# Altium integrated library Diodes - TVS.IntLib: 5379 symbols (part 69 of 122)
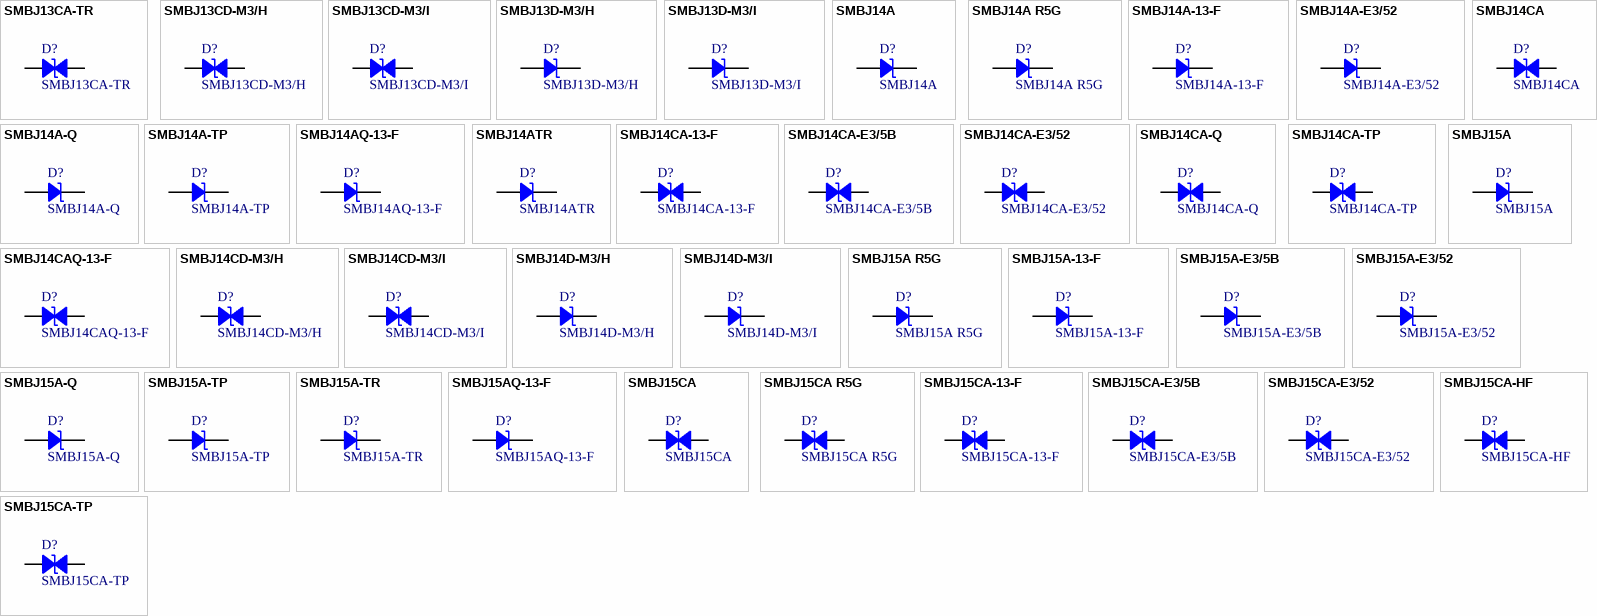
[diagram p202: symbols SMBJ13CA-TR to SMBJ15CA-TP]

## SMBJ14A-E3/52
designator D?
TVS DIODE 14V 23.2V DO214AA; Manufacturer: Vishay Semiconductor Diodes Division; Current - Peak Pulse (10/1000µs): 25.9A; Power Line Protection: No; Power - Peak Pulse: 600W; Type: Zener; Unidirectional Channels: 1; Voltage - Breakdown (Min): 15.6V; Part Number: SMBJ14A-E3/52; Applications: General Purpose; ComponentLink1Description: Datasheet; ComponentLink1URL: http://www.vishay.com/docs/88392/smbj.pdf; ComponentLink2Description: DigiKey Link; ComponentLink2URL: http://digikey.com/product-detail/en/vishay-semiconductor-diodes-division/SMBJ14A-E3-52/SMBJ14A-E3-52GICT-ND/2413418; LastUpdated: 9/2/2020 1:19:51 AM; Lifecycle Status: Active; Minimum Order: 1; Mounting Type: Surface Mount; Operating Temperature: -55°C ~ 150°C (TJ); Package / Case: DO-214AA, SMB; Packaging: TapeAndReel; PartId: 11390; Part Status: Active; Price: 0.15; Series: TransZorb®; Supplier 1: DigiKey; Supplier Part Number 1: SMBJ14A-E3/52GICT-ND; Supplier Device Package: DO-214AA (SMBJ); Voltage - Clamping (Max) @ Ipp: 23.2V; Voltage - Reverse Standoff (Typ): 14V
footprint DO214AA SMB
pins: 1, 2

## SMBJ14A-Q
designator D?
TVS DIODE 14V 23.2V SMB; Manufacturer: Bourns Inc.; Current - Peak Pulse (10/1000µs): 25.9A; Power Line Protection: No; Power - Peak Pulse: 600W; Type: Zener; Unidirectional Channels: 1; Voltage - Breakdown (Min): 15.6V; Part Number: SMBJ14A-Q; Applications: Automotive; ComponentLink1Description: Datasheet; ComponentLink1URL: https://www.bourns.com/docs/Product-Datasheets/SMBJ-Q.pdf; ComponentLink2Description: DigiKey Link; ComponentLink2URL: http://digikey.com/product-detail/en/bourns-inc/SMBJ14A-Q/SMBJ14A-QCT-ND/10222707; LastUpdated: 9/2/2020 1:19:45 AM; Lifecycle Status: Active; Minimum Order: 1; Mounting Type: Surface Mount; Operating Temperature: -55°C ~ 150°C (TJ); Package / Case: DO-214AA, SMB; Packaging: TapeAndReel; PartId: 10728; Part Status: Active; Price: 0.14; Series: Automotive, AEC-Q101, SMBJ; Supplier 1: DigiKey; Supplier Part Number 1: SMBJ14A-QCT-ND; Supplier Device Package: SMB (DO-214AA); Voltage - Clamping (Max) @ Ipp: 23.2V; Voltage - Reverse Standoff (Typ): 14V
footprint DO214AA SMB
pins: 1, 2

## SMBJ14A-TP
designator D?
TVS DIODE 14V 23.2V DO214AA; Manufacturer: Micro Commercial Co; Current - Peak Pulse (10/1000µs): 25.8A; Power Line Protection: No; Power - Peak Pulse: 600W; Type: Zener; Unidirectional Channels: 1; Voltage - Breakdown (Min): 15.6V; Part Number: SMBJ14A-TP; Applications: General Purpose; ComponentLink1Description: Datasheet; ComponentLink1URL: https://www.mccsemi.com/pdf/Products/SMBJ5.0-SMBJ440CA(DO-214AA).pdf; ComponentLink2Description: DigiKey Link; ComponentLink2URL: http://digikey.com/product-detail/en/micro-commercial-co/SMBJ14A-TP/SMBJ14A-TPMSCT-ND/1200656; LastUpdated: 9/2/2020 1:19:48 AM; Lifecycle Status: Active; Minimum Order: 1; Mounting Type: Surface Mount; Operating Temperature: -55°C ~ 175°C (TJ); Package / Case: DO-214AA, SMB; Packaging: TapeAndReel; PartId: 11064; Part Status: Active; Price: 0.10; Series: -; Supplier 1: DigiKey; Supplier Part Number 1: SMBJ14A-TPMSCT-ND; Supplier Device Package: DO-214AA (SMB); Voltage - Clamping (Max) @ Ipp: 23.2V; Voltage - Reverse Standoff (Typ): 14V
footprint DO214AA SMB
pins: 1, 2

## SMBJ14AQ-13-F
designator D?
TRANSIENT VOLTAGE SUPPRESSOR,SMB; Manufacturer: Diodes Incorporated; Current - Peak Pulse (10/1000µs): 25.8A; Power Line Protection: No; Power - Peak Pulse: 600W; Type: Zener; Unidirectional Channels: 1; Voltage - Breakdown (Min): 15.6V; Voltage - Clamping (Max) @ Ipp: 23.2V; Voltage - Reverse Standoff (Typ): 14V; Part Number: SMBJ14AQ-13-F; Applications: Automotive; ComponentLink1Description: Datasheet; ComponentLink1URL: https://www.diodes.com/assets/Datasheets/ds40740.pdf; ComponentLink2Description: DigiKey Link; ComponentLink2URL: http://digikey.com/product-detail/en/diodes-incorporated/SMBJ14AQ-13-F/SMBJ14AQ-13-FDICT-ND/9738907; LastUpdated: 9/2/2020 1:19:49 AM; Lifecycle Status: Active; Minimum Order: 1; Mounting Type: Surface Mount; Operating Temperature: -55°C ~ 150°C (TJ); Package / Case: DO-214AA, SMB; Packaging: TapeAndReel; PartId: 11164; Part Status: Active; Price: 0.13; Series: Automotive, AEC-Q101; Supplier 1: DigiKey; Supplier Part Number 1: SMBJ14AQ-13-FDICT-ND; Supplier Device Package: SMB
footprint DO214AA SMB
pins: 1, 2

## SMBJ14ATR
designator D?
TVS DIODE 14V 23.2V SMB; Manufacturer: SMC Diode Solutions; Current - Peak Pulse (10/1000µs): 25.8A; Power Line Protection: No; Power - Peak Pulse: 600W; Type: Zener; Unidirectional Channels: 1; Voltage - Breakdown (Min): 15.6V; Part Number: SMBJ14ATR; Applications: General Purpose; ComponentLink1Description: Datasheet; ComponentLink1URL: http://www.smc-diodes.com/propdf/SMBJ%20SERIES%20N0193%20REV.D.pdf; ComponentLink2Description: DigiKey Link; ComponentLink2URL: http://digikey.com/product-detail/en/smc-diode-solutions/SMBJ14ATR/1655-1746-1-ND/6674455; LastUpdated: 9/2/2020 1:19:44 AM; Lifecycle Status: Active; Minimum Order: 1; Mounting Type: Surface Mount; Operating Temperature: -55°C ~ 150°C (TJ); Package / Case: DO-214AA, SMB; Packaging: TapeAndReel; PartId: 10672; Part Status: Active; Price: 0.09; Series: -; Supplier 1: DigiKey; Supplier Part Number 1: 1655-1746-1-ND; Supplier Device Package: SMB (DO-214AA); Voltage - Clamping (Max) @ Ipp: 23.2V; Voltage - Reverse Standoff (Typ): 14V
footprint DO214AA SMB
pins: 1, 2

## SMBJ14CA
designator D?
TVS DIODE 14V 23.2V DO214AA; Manufacturer: Taiwan Semiconductor Corporation; Bidirectional Channels: 1; Current - Peak Pulse (10/1000µs): 25.9A; Power Line Protection: No; Power - Peak Pulse: 600W; Type: Zener; Voltage - Breakdown (Min): 15.6V; Part Number: SMBJ14CA; Applications: General Purpose; ComponentLink1Description: Datasheet; ComponentLink1URL: https://www.taiwansemi.com/products/datasheet/SMBJ5V0CA_F%20SERIES_A1806.pdf; ComponentLink2Description: DigiKey Link; ComponentLink2URL: http://digikey.com/product-detail/en/taiwan-semiconductor-corporation/SMBJ14CA/SMBJ14CAFSCT-ND/3504414; LastUpdated: 9/2/2020 1:28:17 AM; Lifecycle Status: Active; Minimum Order: 1; Mounting Type: Surface Mount; Operating Temperature: -55°C ~ 150°C (TJ); Package / Case: DO-214AA, SMB; Packaging: TapeAndReel; PartId: 9074; Part Status: Active; Price: 0.14; Series: SMBJ; Supplier 1: DigiKey; Supplier Part Number 1: SMBJ14CAFSCT-ND; Supplier Device Package: DO-214AA (SMB); Voltage - Clamping (Max) @ Ipp: 23.2V; Voltage - Reverse Standoff (Typ): 14V
footprint DO214AA SMB
pins: 1, 2

## SMBJ14CA-13-F
designator D?
TVS DIODE 14V 23.2V SMB; Manufacturer: Diodes Incorporated; Bidirectional Channels: 1; Current - Peak Pulse (10/1000µs): 25.8A; Power Line Protection: No; Power - Peak Pulse: 600W; Type: Zener; Voltage - Breakdown (Min): 15.6V; Part Number: SMBJ14CA-13-F; Applications: General Purpose; ComponentLink1Description: Datasheet; ComponentLink1URL: https://www.diodes.com/assets/Datasheets/ds19002.pdf; ComponentLink2Description: DigiKey Link; ComponentLink2URL: http://digikey.com/product-detail/en/diodes-incorporated/SMBJ14CA-13-F/SMBJ14CA-FDICT-ND/726012; LastUpdated: 9/2/2020 1:28:19 AM; Lifecycle Status: Active; Minimum Order: 1; Mounting Type: Surface Mount; Operating Temperature: -55°C ~ 150°C (TJ); Package / Case: DO-214AA, SMB; Packaging: TapeAndReel; PartId: 9292; Part Status: Active; Price: 0.10; Series: SMBJ; Supplier 1: DigiKey; Supplier Part Number 1: SMBJ14CA-FDICT-ND; Supplier Device Package: SMB; Voltage - Clamping (Max) @ Ipp: 23.2V; Voltage - Reverse Standoff (Typ): 14V
footprint DO214AA SMB
pins: 1, 2

## SMBJ14CA-E3/5B
designator D?
TVS DIODE 14V 23.2V DO214AA; Manufacturer: Vishay Semiconductor Diodes Division; Bidirectional Channels: 1; Current - Peak Pulse (10/1000µs): 25.9A; Power Line Protection: No; Power - Peak Pulse: 600W; Type: Zener; Voltage - Breakdown (Min): 15.6V; Part Number: SMBJ14CA-E3/5B; Applications: General Purpose; ComponentLink1Description: Datasheet; ComponentLink1URL: http://www.vishay.com/docs/88392/smbj.pdf; ComponentLink2Description: DigiKey Link; ComponentLink2URL: http://digikey.com/product-detail/en/vishay-semiconductor-diodes-division/SMBJ14CA-E3-5B/SMBJ14CA-E3-5BGICT-ND/9601045; LastUpdated: 9/2/2020 1:28:21 AM; Lifecycle Status: Active; Minimum Order: 1; Mounting Type: Surface Mount; Operating Temperature: -55°C ~ 150°C (TJ); Package / Case: DO-214AA, SMB; Packaging: TapeAndReel; PartId: 9500; Part Status: Active; Price: 0.12; Series: TransZorb®; Supplier 1: DigiKey; Supplier Part Number 1: SMBJ14CA-E3/5BGICT-ND; Supplier Device Package: DO-214AA (SMBJ); Voltage - Clamping (Max) @ Ipp: 23.2V; Voltage - Reverse Standoff (Typ): 14V
footprint DO214AA SMB
pins: 1, 2

## SMBJ14CA-E3/52
designator D?
TVS DIODE 14V 23.2V DO214AA; Manufacturer: Vishay Semiconductor Diodes Division; Bidirectional Channels: 1; Current - Peak Pulse (10/1000µs): 25.9A; Power Line Protection: No; Power - Peak Pulse: 600W; Type: Zener; Voltage - Breakdown (Min): 15.6V; Part Number: SMBJ14CA-E3/52; Applications: General Purpose; ComponentLink1Description: Datasheet; ComponentLink1URL: http://www.vishay.com/docs/88392/smbj.pdf; ComponentLink2Description: DigiKey Link; ComponentLink2URL: http://digikey.com/product-detail/en/vishay-semiconductor-diodes-division/SMBJ14CA-E3-52/SMBJ14CA-E3-52GICT-ND/2413457; LastUpdated: 9/2/2020 1:28:17 AM; Lifecycle Status: Active; Minimum Order: 1; Mounting Type: Surface Mount; Operating Temperature: -55°C ~ 150°C (TJ); Package / Case: DO-214AA, SMB; Packaging: TapeAndReel; PartId: 9014; Part Status: Active; Price: 0.19; Series: TransZorb®; Supplier 1: DigiKey; Supplier Part Number 1: SMBJ14CA-E3/52GICT-ND; Supplier Device Package: DO-214AA (SMBJ); Voltage - Clamping (Max) @ Ipp: 23.2V; Voltage - Reverse Standoff (Typ): 14V
footprint DO214AA SMB
pins: 1, 2

## SMBJ14CA-Q
designator D?
TVS DIODE 14V 23.2V SMB; Manufacturer: Bourns Inc.; Bidirectional Channels: 1; Current - Peak Pulse (10/1000µs): 25.9A; Power Line Protection: No; Power - Peak Pulse: 600W; Type: Zener; Voltage - Breakdown (Min): 15.6V; Part Number: SMBJ14CA-Q; Applications: Automotive; ComponentLink1Description: Datasheet; ComponentLink1URL: https://www.bourns.com/docs/Product-Datasheets/SMBJ-Q.pdf; ComponentLink2Description: DigiKey Link; ComponentLink2URL: http://digikey.com/product-detail/en/bourns-inc/SMBJ14CA-Q/SMBJ14CA-QCT-ND/10222708; LastUpdated: 9/2/2020 1:28:17 AM; Lifecycle Status: Active; Minimum Order: 1; Mounting Type: Surface Mount; Operating Temperature: -55°C ~ 150°C (TJ); Package / Case: DO-214AA, SMB; Packaging: TapeAndReel; PartId: 9062; Part Status: Active; Price: 0.15; Series: Automotive, AEC-Q101, SMBJ; Supplier 1: DigiKey; Supplier Part Number 1: SMBJ14CA-QCT-ND; Supplier Device Package: SMB (DO-214AA); Voltage - Clamping (Max) @ Ipp: 23.2V; Voltage - Reverse Standoff (Typ): 14V
footprint DO214AA SMB
pins: 1, 2

## SMBJ14CA-TP
designator D?
TVS DIODE 14V 23.2V DO214AA; Manufacturer: Micro Commercial Co; Bidirectional Channels: 1; Current - Peak Pulse (10/1000µs): 25.8A; Power Line Protection: No; Power - Peak Pulse: 600W; Type: Zener; Voltage - Breakdown (Min): 15.6V; Part Number: SMBJ14CA-TP; Applications: General Purpose; ComponentLink1Description: Datasheet; ComponentLink1URL: https://www.mccsemi.com/pdf/Products/SMBJ5.0-SMBJ440CA(DO-214AA).pdf; ComponentLink2Description: DigiKey Link; ComponentLink2URL: http://digikey.com/product-detail/en/micro-commercial-co/SMBJ14CA-TP/SMBJ14CA-TPMSCT-ND/1200657; LastUpdated: 9/2/2020 1:28:18 AM; Lifecycle Status: Active; Minimum Order: 1; Mounting Type: Surface Mount; Operating Temperature: -55°C ~ 175°C (TJ); Package / Case: DO-214AA, SMB; Packaging: TapeAndReel; PartId: 9192; Part Status: Active; Price: 0.03; Series: -; Supplier 1: DigiKey; Supplier Part Number 1: SMBJ14CA-TPMSCT-ND; Supplier Device Package: DO-214AA (SMB); Voltage - Clamping (Max) @ Ipp: 23.2V; Voltage - Reverse Standoff (Typ): 14V
footprint DO214AA SMB
pins: 1, 2

## SMBJ14CAQ-13-F
designator D?
TRANSIENT VOLTAGE SUPPRESSOR,SMB; Manufacturer: Diodes Incorporated; Bidirectional Channels: 1; Current - Peak Pulse (10/1000µs): 25.8A; Power Line Protection: No; Power - Peak Pulse: 600W; Type: Zener; Voltage - Breakdown (Min): 15.6V; Voltage - Clamping (Max) @ Ipp: 23.2V; Voltage - Reverse Standoff (Typ): 14V; Part Number: SMBJ14CAQ-13-F; Applications: Automotive; ComponentLink1Description: Datasheet; ComponentLink1URL: https://www.diodes.com/assets/Datasheets/ds40740.pdf; ComponentLink2Description: DigiKey Link; ComponentLink2URL: http://digikey.com/product-detail/en/diodes-incorporated/SMBJ14CAQ-13-F/SMBJ14CAQ-13-FDICT-ND/9738920; LastUpdated: 9/2/2020 1:28:19 AM; Lifecycle Status: Active; Minimum Order: 1; Mounting Type: Surface Mount; Operating Temperature: -55°C ~ 150°C (TJ); Package / Case: DO-214AA, SMB; Packaging: TapeAndReel; PartId: 9329; Part Status: Active; Price: 0.14; Series: Automotive, AEC-Q101; Supplier 1: DigiKey; Supplier Part Number 1: SMBJ14CAQ-13-FDICT-ND; Supplier Device Package: SMB
footprint DO214AA SMB
pins: 1, 2

## SMBJ14CD-M3/H
designator D?
TVS DIODE 14V 22.9V DO214AA; Manufacturer: Vishay Semiconductor Diodes Division; Bidirectional Channels: 1; Current - Peak Pulse (10/1000µs): 26.2A; Power Line Protection: No; Power - Peak Pulse: 600W; Type: Zener; Voltage - Breakdown (Min): 15.8V; Part Number: SMBJ14CD-M3/H; Applications: General Purpose; ComponentLink1Description: Datasheet; ComponentLink1URL: http://www.vishay.com/docs/87606/87606.pdf; ComponentLink2Description: DigiKey Link; ComponentLink2URL: http://digikey.com/product-detail/en/vishay-semiconductor-diodes-division/SMBJ14CD-M3-H/SMBJ14CD-M3-HGICT-ND/5878962; LastUpdated: 9/2/2020 1:28:20 AM; Lifecycle Status: Active; Minimum Order: 1; Mounting Type: Surface Mount; Operating Temperature: -55°C ~ 150°C (TJ); Package / Case: DO-214AA, SMB; Packaging: TapeAndReel; PartId: 9344; Part Status: Active; Price: 0.20; Series: TransZorb®; Supplier 1: DigiKey; Supplier Part Number 1: SMBJ14CD-M3/HGICT-ND; Supplier Device Package: DO-214AA (SMBJ); Voltage - Clamping (Max) @ Ipp: 22.9V; Voltage - Reverse Standoff (Typ): 14V
footprint DO214AA SMB
pins: 1, 2

## SMBJ14CD-M3/I
designator D?
TVS DIODE 14V 22.9V DO214AA; Manufacturer: Vishay Semiconductor Diodes Division; Bidirectional Channels: 1; Current - Peak Pulse (10/1000µs): 26.2A; Power Line Protection: No; Power - Peak Pulse: 600W; Type: Zener; Voltage - Breakdown (Min): 15.8V; Part Number: SMBJ14CD-M3/I; Applications: General Purpose; ComponentLink1Description: Datasheet; ComponentLink1URL: http://www.vishay.com/docs/87606/87606.pdf; ComponentLink2Description: DigiKey Link; ComponentLink2URL: http://digikey.com/product-detail/en/vishay-semiconductor-diodes-division/SMBJ14CD-M3-I/SMBJ14CD-M3-IGICT-ND/9648410; LastUpdated: 9/2/2020 1:28:21 AM; Lifecycle Status: Active; Minimum Order: 1; Mounting Type: Surface Mount; Operating Temperature: -55°C ~ 150°C (TJ); Package / Case: DO-214AA, SMB; Packaging: TapeAndReel; PartId: 9491; Part Status: Active; Price: 0.13; Series: TransZorb®; Supplier 1: DigiKey; Supplier Part Number 1: SMBJ14CD-M3/IGICT-ND; Supplier Device Package: DO-214AA (SMBJ); Voltage - Clamping (Max) @ Ipp: 22.9V; Voltage - Reverse Standoff (Typ): 14V
footprint DO214AA SMB
pins: 1, 2

## SMBJ14D-M3/H
designator D?
TVS DIODE 14V 22.9V DO214AA; Manufacturer: Vishay Semiconductor Diodes Division; Current - Peak Pulse (10/1000µs): 26.2A; Power Line Protection: No; Power - Peak Pulse: 600W; Type: Zener; Unidirectional Channels: 1; Voltage - Breakdown (Min): 15.8V; Part Number: SMBJ14D-M3/H; Applications: General Purpose; ComponentLink1Description: Datasheet; ComponentLink1URL: http://www.vishay.com/docs/87606/87606.pdf; ComponentLink2Description: DigiKey Link; ComponentLink2URL: http://digikey.com/product-detail/en/vishay-semiconductor-diodes-division/SMBJ14D-M3-H/SMBJ14D-M3-HGICT-ND/5253062; LastUpdated: 9/2/2020 1:19:43 AM; Lifecycle Status: Active; Minimum Order: 1; Mounting Type: Surface Mount; Operating Temperature: -55°C ~ 150°C (TJ); Package / Case: DO-214AA, SMB; Packaging: TapeAndReel; PartId: 10607; Part Status: Active; Price: 0.15; Series: TransZorb®; Supplier 1: DigiKey; Supplier Part Number 1: SMBJ14D-M3/HGICT-ND; Supplier Device Package: DO-214AA (SMBJ); Voltage - Clamping (Max) @ Ipp: 22.9V; Voltage - Reverse Standoff (Typ): 14V
footprint DO214AA SMB
pins: 1, 2

## SMBJ14D-M3/I
designator D?
TVS DIODE 14V 22.9V DO214AA; Manufacturer: Vishay Semiconductor Diodes Division; Current - Peak Pulse (10/1000µs): 26.2A; Power Line Protection: No; Power - Peak Pulse: 600W; Type: Zener; Unidirectional Channels: 1; Voltage - Breakdown (Min): 15.8V; Part Number: SMBJ14D-M3/I; Applications: General Purpose; ComponentLink1Description: Datasheet; ComponentLink1URL: http://www.vishay.com/docs/87606/87606.pdf; ComponentLink2Description: DigiKey Link; ComponentLink2URL: http://digikey.com/product-detail/en/vishay-semiconductor-diodes-division/SMBJ14D-M3-I/SMBJ14D-M3-IGICT-ND/9648411; LastUpdated: 9/2/2020 1:19:47 AM; Lifecycle Status: Active; Minimum Order: 1; Mounting Type: Surface Mount; Operating Temperature: -55°C ~ 150°C (TJ); Package / Case: DO-214AA, SMB; Packaging: TapeAndReel; PartId: 10946; Part Status: Active; Price: 0.11; Series: TransZorb®; Supplier 1: DigiKey; Supplier Part Number 1: SMBJ14D-M3/IGICT-ND; Supplier Device Package: DO-214AA (SMBJ); Voltage - Clamping (Max) @ Ipp: 22.9V; Voltage - Reverse Standoff (Typ): 14V
footprint DO214AA SMB
pins: 1, 2

## SMBJ15A
designator D?
TVS DIODE 15V 24.4V DO214AA; Manufacturer: Littelfuse Inc.; Current - Peak Pulse (10/1000µs): 24.6A; Power Line Protection: No; Power - Peak Pulse: 600W; Type: Zener; Unidirectional Channels: 1; Voltage - Breakdown (Min): 16.7V; Part Number: SMBJ15A; Applications: General Purpose; ComponentLink1Description: Datasheet; ComponentLink1URL: https://www.littelfuse.com/~/media/electronics/datasheets/tvs_diodes/littelfuse_tvs_diode_smbj_datasheet.pdf.pdf; ComponentLink2Description: DigiKey Link; ComponentLink2URL: http://digikey.com/product-detail/en/littelfuse-inc/SMBJ15A/SMBJ15ALFCT-ND/285981; LastUpdated: 9/2/2020 1:19:45 AM; Lifecycle Status: Active; Minimum Order: 1; Mounting Type: Surface Mount; Operating Temperature: -65°C ~ 150°C (TJ); Package / Case: DO-214AA, SMB; Packaging: TapeAndReel; PartId: 10746; Part Status: Active; Price: 0.09; Series: SMBJ; Supplier 1: DigiKey; Supplier Part Number 1: SMBJ15ALFCT-ND; Supplier Device Package: DO-214AA (SMBJ); Voltage - Clamping (Max) @ Ipp: 24.4V; Voltage - Reverse Standoff (Typ): 15V
footprint DO214AA SMB
pins: 1, 2

## SMBJ15A R5G
designator D?
TVS DIODE 15V 24.4V DO214AA; Manufacturer: Taiwan Semiconductor Corporation; Current - Peak Pulse (10/1000µs): 25.1A; Power Line Protection: No; Power - Peak Pulse: 600W; Type: Zener; Unidirectional Channels: 1; Voltage - Breakdown (Min): 16.7V; Part Number: SMBJ15A R5G; Applications: General Purpose; ComponentLink1Description: Datasheet; ComponentLink1URL: https://www.taiwansemi.com/products/datasheet/SMBJ%20SERIES_P1812.pdf; ComponentLink2Description: DigiKey Link; ComponentLink2URL: http://digikey.com/product-detail/en/taiwan-semiconductor-corporation/SMBJ15A-R5G/SMBJ15AR5GCT-ND/7359075; LastUpdated: 9/2/2020 1:19:51 AM; Lifecycle Status: Active; Minimum Order: 1; Mounting Type: Surface Mount; Operating Temperature: -55°C ~ 150°C (TJ); Package / Case: DO-214AA, SMB; Packaging: TapeAndReel; PartId: 11316; Part Status: Active; Price: 0.22; Series: SMBJ; Supplier 1: DigiKey; Supplier Part Number 1: SMBJ15AR5GCT-ND; Supplier Device Package: DO-214AA (SMB); Voltage - Clamping (Max) @ Ipp: 24.4V; Voltage - Reverse Standoff (Typ): 15V
footprint DO214AA SMB
pins: 1, 2

## SMBJ15A-13-F
designator D?
TVS DIODE 15V 24.4V SMB; Manufacturer: Diodes Incorporated; Current - Peak Pulse (10/1000µs): 24A; Power Line Protection: No; Power - Peak Pulse: 600W; Type: Zener; Unidirectional Channels: 1; Voltage - Breakdown (Min): 16.7V; Part Number: SMBJ15A-13-F; Applications: General Purpose; ComponentLink1Description: Datasheet; ComponentLink1URL: https://www.diodes.com/assets/Datasheets/ds19002.pdf; ComponentLink2Description: DigiKey Link; ComponentLink2URL: http://digikey.com/product-detail/en/diodes-incorporated/SMBJ15A-13-F/SMBJ15A-FDICT-ND/816058; LastUpdated: 9/2/2020 1:19:50 AM; Lifecycle Status: Active; Minimum Order: 1; Mounting Type: Surface Mount; Operating Temperature: -55°C ~ 150°C (TJ); Package / Case: DO-214AA, SMB; Packaging: TapeAndReel; PartId: 11286; Part Status: Active; Price: 0.09; Series: SMBJ; Supplier 1: DigiKey; Supplier Part Number 1: SMBJ15A-FDICT-ND; Supplier Device Package: SMB; Voltage - Clamping (Max) @ Ipp: 24.4V; Voltage - Reverse Standoff (Typ): 15V
footprint DO214AA SMB
pins: 1, 2

## SMBJ15A-E3/5B
designator D?
TVS DIODE 15V 24.4V DO214AA; Manufacturer: Vishay Semiconductor Diodes Division; Current - Peak Pulse (10/1000µs): 24.6A; Power Line Protection: No; Power - Peak Pulse: 600W; Type: Zener; Unidirectional Channels: 1; Voltage - Breakdown (Min): 16.7V; Part Number: SMBJ15A-E3/5B; Applications: General Purpose; ComponentLink1Description: Datasheet; ComponentLink1URL: http://www.vishay.com/docs/88392/smbj.pdf; ComponentLink2Description: DigiKey Link; ComponentLink2URL: http://digikey.com/product-detail/en/vishay-semiconductor-diodes-division/SMBJ15A-E3-5B/SMBJ15A-E3-5BGICT-ND/9601047; LastUpdated: 9/2/2020 1:19:43 AM; Lifecycle Status: Active; Minimum Order: 1; Mounting Type: Surface Mount; Operating Temperature: -55°C ~ 150°C (TJ); Package / Case: DO-214AA, SMB; Packaging: TapeAndReel; PartId: 10573; Part Status: Active; Price: 0.11; Series: TransZorb®; Supplier 1: DigiKey; Supplier Part Number 1: SMBJ15A-E3/5BGICT-ND; Supplier Device Package: DO-214AA (SMBJ); Voltage - Clamping (Max) @ Ipp: 24.4V; Voltage - Reverse Standoff (Typ): 15V
footprint DO214AA SMB
pins: 1, 2

## SMBJ15A-E3/52
designator D?
TVS DIODE 15V 24.4V DO214AA; Manufacturer: Vishay Semiconductor Diodes Division; Current - Peak Pulse (10/1000µs): 24.6A; Power Line Protection: No; Power - Peak Pulse: 600W; Type: Zener; Unidirectional Channels: 1; Voltage - Breakdown (Min): 16.7V; Part Number: SMBJ15A-E3/52; Applications: General Purpose; ComponentLink1Description: Datasheet; ComponentLink1URL: http://www.vishay.com/docs/88392/smbj.pdf; ComponentLink2Description: DigiKey Link; ComponentLink2URL: http://digikey.com/product-detail/en/vishay-semiconductor-diodes-division/SMBJ15A-E3-52/SMBJ15A-E3-52GICT-ND/1091645; LastUpdated: 9/2/2020 1:19:49 AM; Lifecycle Status: Active; Minimum Order: 1; Mounting Type: Surface Mount; Operating Temperature: -55°C ~ 150°C (TJ); Package / Case: DO-214AA, SMB; Packaging: TapeAndReel; PartId: 11116; Part Status: Active; Price: 0.15; Series: TransZorb®; Supplier 1: DigiKey; Supplier Part Number 1: SMBJ15A-E3/52GICT-ND; Supplier Device Package: DO-214AA (SMBJ); Voltage - Clamping (Max) @ Ipp: 24.4V; Voltage - Reverse Standoff (Typ): 15V
footprint DO214AA SMB
pins: 1, 2

## SMBJ15A-Q
designator D?
TVS DIODE 15V 24.4V SMB; Manufacturer: Bourns Inc.; Current - Peak Pulse (10/1000µs): 24.6A; Power Line Protection: No; Power - Peak Pulse: 600W; Type: Zener; Unidirectional Channels: 1; Voltage - Breakdown (Min): 16.7V; Part Number: SMBJ15A-Q; Applications: Automotive; ComponentLink1Description: Datasheet; ComponentLink1URL: https://www.bourns.com/docs/Product-Datasheets/SMBJ-Q.pdf; ComponentLink2Description: DigiKey Link; ComponentLink2URL: http://digikey.com/product-detail/en/bourns-inc/SMBJ15A-Q/SMBJ15A-QCT-ND/10222709; LastUpdated: 9/2/2020 1:19:45 AM; Lifecycle Status: Active; Minimum Order: 1; Mounting Type: Surface Mount; Operating Temperature: -55°C ~ 150°C (TJ); Package / Case: DO-214AA, SMB; Packaging: TapeAndReel; PartId: 10706; Part Status: Active; Price: 0.14; Series: Automotive, AEC-Q101, SMBJ; Supplier 1: DigiKey; Supplier Part Number 1: SMBJ15A-QCT-ND; Supplier Device Package: SMB (DO-214AA); Voltage - Clamping (Max) @ Ipp: 24.4V; Voltage - Reverse Standoff (Typ): 15V
footprint DO214AA SMB
pins: 1, 2

## SMBJ15A-TP
designator D?
TVS DIODE 15V 24.4V DO214AA; Manufacturer: Micro Commercial Co; Current - Peak Pulse (10/1000µs): 24A; Power Line Protection: No; Power - Peak Pulse: 600W; Type: Zener; Unidirectional Channels: 1; Voltage - Breakdown (Min): 16.7V; Part Number: SMBJ15A-TP; Applications: General Purpose; ComponentLink1Description: Datasheet; ComponentLink1URL: https://www.mccsemi.com/pdf/Products/SMBJ5.0-SMBJ440CA(DO-214AA).pdf; ComponentLink2Description: DigiKey Link; ComponentLink2URL: http://digikey.com/product-detail/en/micro-commercial-co/SMBJ15A-TP/SMBJ15A-TPMSCT-ND/1200658; LastUpdated: 9/2/2020 1:19:45 AM; Lifecycle Status: Active; Minimum Order: 1; Mounting Type: Surface Mount; Operating Temperature: -55°C ~ 175°C (TJ); Package / Case: DO-214AA, SMB; Packaging: TapeAndReel; PartId: 10763; Part Status: Active; Price: 0.10; Series: -; Supplier 1: DigiKey; Supplier Part Number 1: SMBJ15A-TPMSCT-ND; Supplier Device Package: DO-214AA (SMB); Voltage - Clamping (Max) @ Ipp: 24.4V; Voltage - Reverse Standoff (Typ): 15V
footprint DO214AA SMB
pins: 1, 2

## SMBJ15A-TR
designator D?
TVS DIODE 15V 32.5V SMB; Manufacturer: STMicroelectronics; Current - Peak Pulse (10/1000µs): 25.1A; Power Line Protection: No; Power - Peak Pulse: 600W; Type: Zener; Unidirectional Channels: 1; Voltage - Breakdown (Min): 16.7V; Voltage - Clamping (Max) @ Ipp: 24.4V; Part Number: SMBJ15A-TR; Applications: General Purpose; ComponentLink1Description: Datasheet; ComponentLink1URL: http://www.st.com/content/ccc/resource/technical/document/datasheet/19/78/91/39/07/cd/40/65/CD00001366.pdf/files/CD00001366.pdf/_jcr_content/translations/en.CD00001366.pdf; ComponentLink2Description: DigiKey Link; ComponentLink2URL: http://digikey.com/product-detail/en/stmicroelectronics/SMBJ15A-TR/497-3003-1-ND/634859; LastUpdated: 9/2/2020 1:19:51 AM; Lifecycle Status: Active; Minimum Order: 1; Mounting Type: Surface Mount; Operating Temperature: -55°C ~ 150°C (TJ); Package / Case: DO-214AA, SMB; Packaging: TapeAndReel; PartId: 11373; Part Status: Active; Price: 0.10; Series: SMBJ, TRANSIL™; Supplier 1: DigiKey; Supplier Part Number 1: 497-3003-1-ND; Supplier Device Package: SMB (DO-214AA); Voltage - Reverse Standoff (Typ): 15V
footprint DO214AA SMB
pins: 1, 2

## SMBJ15AQ-13-F
designator D?
TRANSIENT VOLTAGE SUPPRESSOR,SMB; Manufacturer: Diodes Incorporated; Current - Peak Pulse (10/1000µs): 24A; Power Line Protection: No; Power - Peak Pulse: 600W; Type: Zener; Unidirectional Channels: 1; Voltage - Breakdown (Min): 16.7V; Voltage - Clamping (Max) @ Ipp: 24.4V; Voltage - Reverse Standoff (Typ): 15V; Part Number: SMBJ15AQ-13-F; Applications: Automotive; ComponentLink1Description: Datasheet; ComponentLink1URL: https://www.diodes.com/assets/Datasheets/ds40740.pdf; ComponentLink2Description: DigiKey Link; ComponentLink2URL: http://digikey.com/product-detail/en/diodes-incorporated/SMBJ15AQ-13-F/SMBJ15AQ-13-FDICT-ND/9738908; LastUpdated: 9/2/2020 1:19:49 AM; Lifecycle Status: Active; Minimum Order: 1; Mounting Type: Surface Mount; Operating Temperature: -55°C ~ 150°C (TJ); Package / Case: DO-214AA, SMB; Packaging: TapeAndReel; PartId: 11167; Part Status: Active; Price: 0.13; Series: Automotive, AEC-Q101; Supplier 1: DigiKey; Supplier Part Number 1: SMBJ15AQ-13-FDICT-ND; Supplier Device Package: SMB
footprint DO214AA SMB
pins: 1, 2

## SMBJ15CA
designator D?
TVS DIODE 15V 24.4V DO214AA; Manufacturer: Littelfuse Inc.; Bidirectional Channels: 1; Current - Peak Pulse (10/1000µs): 24.6A; Power Line Protection: No; Power - Peak Pulse: 600W; Type: Zener; Voltage - Breakdown (Min): 16.7V; Part Number: SMBJ15CA; Applications: General Purpose; ComponentLink1Description: Datasheet; ComponentLink1URL: https://www.littelfuse.com/~/media/electronics/datasheets/tvs_diodes/littelfuse_tvs_diode_smbj_datasheet.pdf.pdf; ComponentLink2Description: DigiKey Link; ComponentLink2URL: http://digikey.com/product-detail/en/littelfuse-inc/SMBJ15CA/SMBJ15CALFCT-ND/285983; LastUpdated: 9/2/2020 1:28:17 AM; Lifecycle Status: Active; Minimum Order: 1; Mounting Type: Surface Mount; Operating Temperature: -65°C ~ 150°C (TJ); Package / Case: DO-214AA, SMB; Packaging: TapeAndReel; PartId: 9087; Part Status: Active; Price: 0.11; Series: SMBJ; Supplier 1: DigiKey; Supplier Part Number 1: SMBJ15CALFCT-ND; Supplier Device Package: DO-214AA (SMBJ); Voltage - Clamping (Max) @ Ipp: 24.4V; Voltage - Reverse Standoff (Typ): 15V
footprint DO214AA SMB
pins: 1, 2

## SMBJ15CA R5G
designator D?
TVS DIODE 15V 24.4V DO214AA; Manufacturer: Taiwan Semiconductor Corporation; Bidirectional Channels: 1; Current - Peak Pulse (10/1000µs): 25.1A; Power Line Protection: No; Power - Peak Pulse: 600W; Type: Zener; Voltage - Breakdown (Min): 16.7V; Part Number: SMBJ15CA R5G; Applications: General Purpose; ComponentLink1Description: Datasheet; ComponentLink1URL: https://www.taiwansemi.com/products/datasheet/SMBJ5V0CA_F%20SERIES_A1806.pdf; ComponentLink2Description: DigiKey Link; ComponentLink2URL: http://digikey.com/product-detail/en/taiwan-semiconductor-corporation/SMBJ15CA-R5G/SMBJ15CAR5GCT-ND/7359078; LastUpdated: 9/2/2020 1:28:17 AM; Lifecycle Status: Active; Minimum Order: 1; Mounting Type: Surface Mount; Operating Temperature: -55°C ~ 150°C (TJ); Package / Case: DO-214AA, SMB; Packaging: TapeAndReel; PartId: 9095; Part Status: Active; Price: 0.30; Series: SMBJ; Supplier 1: DigiKey; Supplier Part Number 1: SMBJ15CAR5GCT-ND; Supplier Device Package: DO-214AA (SMB); Voltage - Clamping (Max) @ Ipp: 24.4V; Voltage - Reverse Standoff (Typ): 15V
footprint DO214AA SMB
pins: 1, 2

## SMBJ15CA-13-F
designator D?
TVS DIODE 15V 24.4V SMB; Manufacturer: Diodes Incorporated; Bidirectional Channels: 1; Current - Peak Pulse (10/1000µs): 24A; Power Line Protection: No; Power - Peak Pulse: 600W; Type: Zener; Voltage - Breakdown (Min): 16.7V; Part Number: SMBJ15CA-13-F; Applications: General Purpose; ComponentLink1Description: Datasheet; ComponentLink1URL: https://www.diodes.com/assets/Datasheets/ds19002.pdf; ComponentLink2Description: DigiKey Link; ComponentLink2URL: http://digikey.com/product-detail/en/diodes-incorporated/SMBJ15CA-13-F/SMBJ15CA-FDICT-ND/816059; LastUpdated: 9/2/2020 1:28:18 AM; Lifecycle Status: Active; Minimum Order: 1; Mounting Type: Surface Mount; Operating Temperature: -55°C ~ 150°C (TJ); Package / Case: DO-214AA, SMB; Packaging: TapeAndReel; PartId: 9153; Part Status: Active; Price: 0.10; Series: SMBJ; Supplier 1: DigiKey; Supplier Part Number 1: SMBJ15CA-FDICT-ND; Supplier Device Package: SMB; Voltage - Clamping (Max) @ Ipp: 24.4V; Voltage - Reverse Standoff (Typ): 15V
footprint DO214AA SMB
pins: 1, 2

## SMBJ15CA-E3/5B
designator D?
TVS DIODE 15V 24.4V DO214AA; Manufacturer: Vishay Semiconductor Diodes Division; Bidirectional Channels: 1; Current - Peak Pulse (10/1000µs): 24.6A; Power Line Protection: No; Power - Peak Pulse: 600W; Type: Zener; Voltage - Breakdown (Min): 16.7V; Part Number: SMBJ15CA-E3/5B; Applications: General Purpose; ComponentLink1Description: Datasheet; ComponentLink1URL: http://www.vishay.com/docs/88392/smbj.pdf; ComponentLink2Description: DigiKey Link; ComponentLink2URL: http://digikey.com/product-detail/en/vishay-semiconductor-diodes-division/SMBJ15CA-E3-5B/SMBJ15CA-E3-5BGICT-ND/5355456; LastUpdated: 9/2/2020 1:28:19 AM; Lifecycle Status: Active; Minimum Order: 1; Mounting Type: Surface Mount; Operating Temperature: -55°C ~ 150°C (TJ); Package / Case: DO-214AA, SMB; Packaging: TapeAndReel; PartId: 9217; Part Status: Active; Price: 0.12; Series: TransZorb®; Supplier 1: DigiKey; Supplier Part Number 1: SMBJ15CA-E3/5BGICT-ND; Supplier Device Package: DO-214AA (SMBJ); Voltage - Clamping (Max) @ Ipp: 24.4V; Voltage - Reverse Standoff (Typ): 15V
footprint DO214AA SMB
pins: 1, 2

## SMBJ15CA-E3/52
designator D?
TVS DIODE 15V 24.4V DO214AA; Manufacturer: Vishay Semiconductor Diodes Division; Bidirectional Channels: 1; Current - Peak Pulse (10/1000µs): 24.6A; Power Line Protection: No; Power - Peak Pulse: 600W; Type: Zener; Voltage - Breakdown (Min): 16.7V; Part Number: SMBJ15CA-E3/52; Applications: General Purpose; ComponentLink1Description: Datasheet; ComponentLink1URL: http://www.vishay.com/docs/88392/smbj.pdf; ComponentLink2Description: DigiKey Link; ComponentLink2URL: http://digikey.com/product-detail/en/vishay-semiconductor-diodes-division/SMBJ15CA-E3-52/SMBJ15CA-E3-52GICT-ND/1091646; LastUpdated: 9/2/2020 1:28:21 AM; Lifecycle Status: Active; Minimum Order: 1; Mounting Type: Surface Mount; Operating Temperature: -55°C ~ 150°C (TJ); Package / Case: DO-214AA, SMB; Packaging: TapeAndReel; PartId: 9507; Part Status: Active; Price: 0.19; Series: TransZorb®; Supplier 1: DigiKey; Supplier Part Number 1: SMBJ15CA-E3/52GICT-ND; Supplier Device Package: DO-214AA (SMBJ); Voltage - Clamping (Max) @ Ipp: 24.4V; Voltage - Reverse Standoff (Typ): 15V
footprint DO214AA SMB
pins: 1, 2

## SMBJ15CA-HF
designator D?
DIODE TVS 15V 600W SMB BI-DIR; Manufacturer: Comchip Technology; Bidirectional Channels: 1; Current - Peak Pulse (10/1000µs): 24.6A; Power Line Protection: No; Type: Zener; Voltage - Breakdown (Min): 16.7V; Voltage - Clamping (Max) @ Ipp: 24.4V; Part Number: SMBJ15CA-HF; Applications: General Purpose; ComponentLink1Description: Datasheet; ComponentLink1URL: http://www.comchiptech.com/admin/files/product/20190409161655.PDF; ComponentLink2Description: DigiKey Link; ComponentLink2URL: http://digikey.com/product-detail/en/comchip-technology/SMBJ15CA-HF/641-2108-1-ND/10223579; LastUpdated: 9/2/2020 1:28:22 AM; Lifecycle Status: Active; Minimum Order: 1; Mounting Type: Surface Mount; Operating Temperature: -55°C ~ 150°C (TJ); Package / Case: DO-214AA, SMB; Packaging: TapeAndReel; PartId: 9660; Part Status: Active; Power - Peak Pulse: 600W; Price: 0.09; Series: -; Supplier 1: DigiKey; Supplier Part Number 1: 641-2108-1-ND; Supplier Device Package: DO-214AA (SMB); Voltage - Reverse Standoff (Typ): 15V
footprint DO214AA SMB
pins: 1, 2

## SMBJ15CA-TP
designator D?
TVS DIODE 15V 24.4V DO214AA; Manufacturer: Micro Commercial Co; Bidirectional Channels: 1; Current - Peak Pulse (10/1000µs): 24A; Power Line Protection: No; Power - Peak Pulse: 600W; Type: Zener; Voltage - Breakdown (Min): 16.7V; Part Number: SMBJ15CA-TP; Applications: General Purpose; ComponentLink1Description: Datasheet; ComponentLink1URL: https://www.mccsemi.com/pdf/Products/SMBJ5.0-SMBJ440CA(DO-214AA).pdf; ComponentLink2Description: DigiKey Link; ComponentLink2URL: http://digikey.com/product-detail/en/micro-commercial-co/SMBJ15CA-TP/SMBJ15CA-TPMSCT-ND/1200659; LastUpdated: 9/2/2020 1:28:21 AM; Lifecycle Status: Active; Minimum Order: 1; Mounting Type: Surface Mount; Operating Temperature: -55°C ~ 175°C (TJ); Package / Case: DO-214AA, SMB; Packaging: TapeAndReel; PartId: 9553; Part Status: Active; Price: 0.10; Series: -; Supplier 1: DigiKey; Supplier Part Number 1: SMBJ15CA-TPMSCT-ND; Supplier Device Package: DO-214AA (SMB); Voltage - Clamping (Max) @ Ipp: 24.4V; Voltage - Reverse Standoff (Typ): 15V
footprint DO214AA SMB
pins: 1, 2

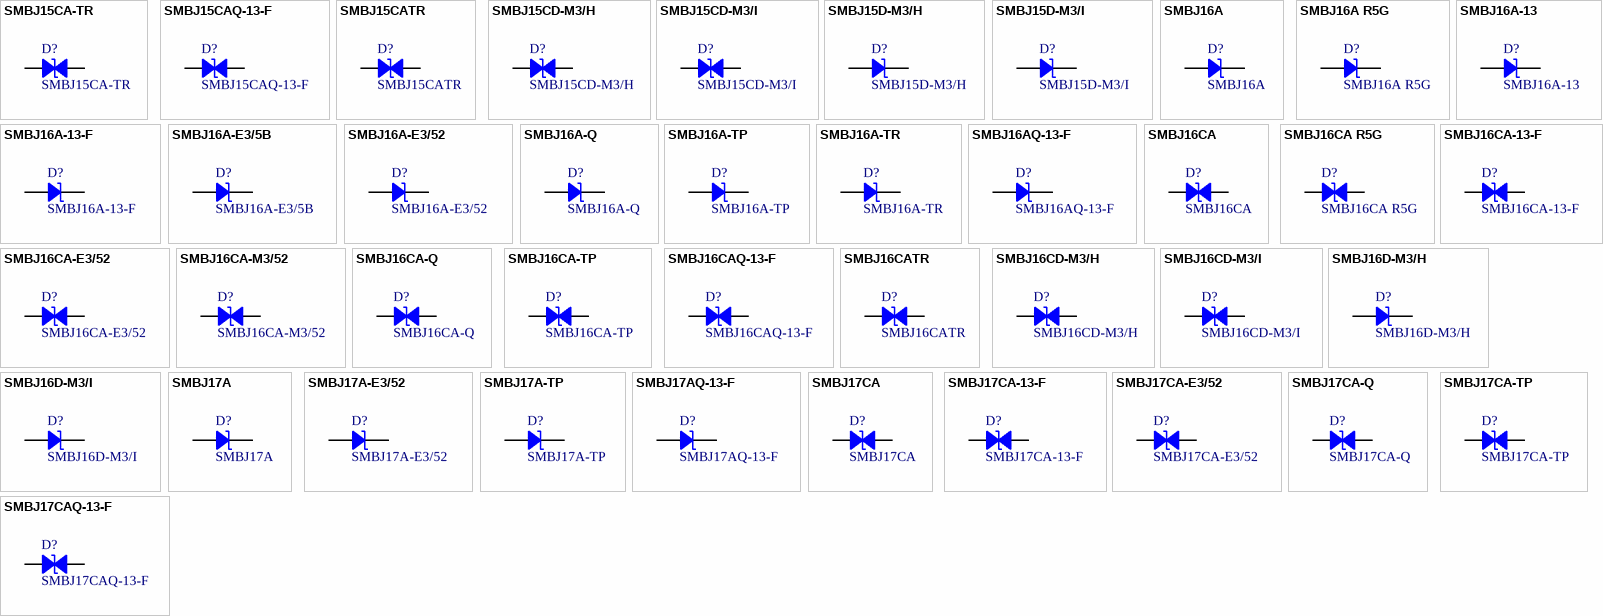
[diagram p76: symbols SMBJ15CA-TR to SMBJ17CAQ-13-F]

## SMBJ15CA-TR
designator D?
TVS DIODE 15V 32.5V SMB; Manufacturer: STMicroelectronics; Bidirectional Channels: 1; Current - Peak Pulse (10/1000µs): 25.1A; Power Line Protection: No; Power - Peak Pulse: 600W; Type: Zener; Voltage - Breakdown (Min): 16.7V; Voltage - Clamping (Max) @ Ipp: 24.4V; Part Number: SMBJ15CA-TR; Applications: General Purpose; ComponentLink1Description: Datasheet; ComponentLink1URL: http://www.st.com/content/ccc/resource/technical/document/datasheet/19/78/91/39/07/cd/40/65/CD00001366.pdf/files/CD00001366.pdf/_jcr_content/translations/en.CD00001366.pdf; ComponentLink2Description: DigiKey Link; ComponentLink2URL: http://digikey.com/product-detail/en/stmicroelectronics/SMBJ15CA-TR/497-3004-1-ND/634862; LastUpdated: 9/2/2020 1:28:20 AM; Lifecycle Status: Active; Minimum Order: 1; Mounting Type: Surface Mount; Operating Temperature: -55°C ~ 150°C (TJ); Package / Case: DO-214AA, SMB; Packaging: TapeAndReel; PartId: 9442; Part Status: Active; Price: 0.13; Series: SMBJ, TRANSIL™; Supplier 1: DigiKey; Supplier Part Number 1: 497-3004-1-ND; Supplier Device Package: SMB (DO-214AA); Voltage - Reverse Standoff (Typ): 15V
footprint DO214AA SMB
pins: 1, 2

## SMBJ15CAQ-13-F
designator D?
TRANSIENT VOLTAGE SUPPRESSOR,SMB; Manufacturer: Diodes Incorporated; Bidirectional Channels: 1; Current - Peak Pulse (10/1000µs): 24A; Power Line Protection: No; Power - Peak Pulse: 600W; Type: Zener; Voltage - Breakdown (Min): 16.7V; Voltage - Clamping (Max) @ Ipp: 24.4V; Voltage - Reverse Standoff (Typ): 15V; Part Number: SMBJ15CAQ-13-F; Applications: Automotive; ComponentLink1Description: Datasheet; ComponentLink1URL: https://www.diodes.com/assets/Datasheets/ds40740.pdf; ComponentLink2Description: DigiKey Link; ComponentLink2URL: http://digikey.com/product-detail/en/diodes-incorporated/SMBJ15CAQ-13-F/SMBJ15CAQ-13-FDICT-ND/9738921; LastUpdated: 9/2/2020 1:28:19 AM; Lifecycle Status: Active; Minimum Order: 1; Mounting Type: Surface Mount; Operating Temperature: -55°C ~ 150°C (TJ); Package / Case: DO-214AA, SMB; Packaging: TapeAndReel; PartId: 9325; Part Status: Active; Price: 0.14; Series: Automotive, AEC-Q101; Supplier 1: DigiKey; Supplier Part Number 1: SMBJ15CAQ-13-FDICT-ND; Supplier Device Package: SMB
footprint DO214AA SMB
pins: 1, 2

## SMBJ15CATR
designator D?
TVS DIODE 15V 24.4V SMB; Manufacturer: SMC Diode Solutions; Bidirectional Channels: 1; Current - Peak Pulse (10/1000µs): 24A; Power Line Protection: No; Power - Peak Pulse: 600W; Type: Zener; Voltage - Breakdown (Min): 16.7V; Part Number: SMBJ15CATR; Applications: General Purpose; ComponentLink1Description: Datasheet; ComponentLink1URL: http://www.smc-diodes.com/propdf/SMBJ%20SERIES%20N0193%20REV.D.pdf; ComponentLink2Description: DigiKey Link; ComponentLink2URL: http://digikey.com/product-detail/en/smc-diode-solutions/SMBJ15CATR/1655-1625-1-ND/6023070; LastUpdated: 9/2/2020 1:28:22 AM; Lifecycle Status: Active; Minimum Order: 1; Mounting Type: Surface Mount; Operating Temperature: -55°C ~ 150°C (TJ); Package / Case: DO-214AA, SMB; Packaging: TapeAndReel; PartId: 9659; Part Status: Active; Price: 0.09; Series: SMBJ; Supplier 1: DigiKey; Supplier Part Number 1: 1655-1625-1-ND; Supplier Device Package: SMB (DO-214AA); Voltage - Clamping (Max) @ Ipp: 24.4V; Voltage - Reverse Standoff (Typ): 15V
footprint DO214AA SMB
pins: 1, 2

## SMBJ15CD-M3/H
designator D?
TVS DIODE 15V 24V DO214AA; Manufacturer: Vishay Semiconductor Diodes Division; Bidirectional Channels: 1; Current - Peak Pulse (10/1000µs): 25A; Power Line Protection: No; Power - Peak Pulse: 600W; Type: Zener; Voltage - Breakdown (Min): 17V; Part Number: SMBJ15CD-M3/H; Applications: General Purpose; ComponentLink1Description: Datasheet; ComponentLink1URL: http://www.vishay.com/docs/87606/87606.pdf; ComponentLink2Description: DigiKey Link; ComponentLink2URL: http://digikey.com/product-detail/en/vishay-semiconductor-diodes-division/SMBJ15CD-M3-H/SMBJ15CD-M3-HGICT-ND/5880118; LastUpdated: 9/2/2020 1:28:16 AM; Lifecycle Status: Active; Minimum Order: 1; Mounting Type: Surface Mount; Operating Temperature: -55°C ~ 150°C (TJ); Package / Case: DO-214AA, SMB; Packaging: TapeAndReel; PartId: 8936; Part Status: Active; Price: 0.20; Series: TransZorb®; Supplier 1: DigiKey; Supplier Part Number 1: SMBJ15CD-M3/HGICT-ND; Supplier Device Package: DO-214AA (SMBJ); Voltage - Clamping (Max) @ Ipp: 24V; Voltage - Reverse Standoff (Typ): 15V
footprint DO214AA SMB
pins: 1, 2

## SMBJ15CD-M3/I
designator D?
TVS DIODE 15V 24V DO214AA; Manufacturer: Vishay Semiconductor Diodes Division; Bidirectional Channels: 1; Current - Peak Pulse (10/1000µs): 25A; Power Line Protection: No; Power - Peak Pulse: 600W; Type: Zener; Voltage - Breakdown (Min): 17V; Part Number: SMBJ15CD-M3/I; Applications: General Purpose; ComponentLink1Description: Datasheet; ComponentLink1URL: http://www.vishay.com/docs/87606/87606.pdf; ComponentLink2Description: DigiKey Link; ComponentLink2URL: http://digikey.com/product-detail/en/vishay-semiconductor-diodes-division/SMBJ15CD-M3-I/SMBJ15CD-M3-IGICT-ND/7915507; LastUpdated: 9/2/2020 1:28:20 AM; Lifecycle Status: Active; Minimum Order: 1; Mounting Type: Surface Mount; Operating Temperature: -55°C ~ 150°C (TJ); Package / Case: DO-214AA, SMB; Packaging: TapeAndReel; PartId: 9387; Part Status: Active; Price: 0.13; Series: TransZorb®; Supplier 1: DigiKey; Supplier Part Number 1: SMBJ15CD-M3/IGICT-ND; Supplier Device Package: DO-214AA (SMBJ); Voltage - Clamping (Max) @ Ipp: 24V; Voltage - Reverse Standoff (Typ): 15V
footprint DO214AA SMB
pins: 1, 2

## SMBJ15D-M3/H
designator D?
TVS DIODE 15V 24V DO214AA; Manufacturer: Vishay Semiconductor Diodes Division; Current - Peak Pulse (10/1000µs): 25A; Power Line Protection: No; Power - Peak Pulse: 600W; Type: Zener; Unidirectional Channels: 1; Voltage - Breakdown (Min): 17V; Part Number: SMBJ15D-M3/H; Applications: General Purpose; ComponentLink1Description: Datasheet; ComponentLink1URL: http://www.vishay.com/docs/87606/87606.pdf; ComponentLink2Description: DigiKey Link; ComponentLink2URL: http://digikey.com/product-detail/en/vishay-semiconductor-diodes-division/SMBJ15D-M3-H/SMBJ15D-M3-HGICT-ND/5253063; LastUpdated: 9/2/2020 1:19:49 AM; Lifecycle Status: Active; Minimum Order: 1; Mounting Type: Surface Mount; Operating Temperature: -55°C ~ 150°C (TJ); Package / Case: DO-214AA, SMB; Packaging: TapeAndReel; PartId: 11148; Part Status: Active; Price: 0.15; Series: TransZorb®; Supplier 1: DigiKey; Supplier Part Number 1: SMBJ15D-M3/HGICT-ND; Supplier Device Package: DO-214AA (SMBJ); Voltage - Clamping (Max) @ Ipp: 24V; Voltage - Reverse Standoff (Typ): 15V
footprint DO214AA SMB
pins: 1, 2

## SMBJ15D-M3/I
designator D?
TVS DIODE 15V 24V DO214AA; Manufacturer: Vishay Semiconductor Diodes Division; Current - Peak Pulse (10/1000µs): 25A; Power Line Protection: No; Power - Peak Pulse: 600W; Type: Zener; Unidirectional Channels: 1; Voltage - Breakdown (Min): 17V; Part Number: SMBJ15D-M3/I; Applications: General Purpose; ComponentLink1Description: Datasheet; ComponentLink1URL: http://www.vishay.com/docs/87606/87606.pdf; ComponentLink2Description: DigiKey Link; ComponentLink2URL: http://digikey.com/product-detail/en/vishay-semiconductor-diodes-division/SMBJ15D-M3-I/SMBJ15D-M3-IGICT-ND/9648413; LastUpdated: 9/2/2020 1:19:47 AM; Lifecycle Status: Active; Minimum Order: 1; Mounting Type: Surface Mount; Operating Temperature: -55°C ~ 150°C (TJ); Package / Case: DO-214AA, SMB; Packaging: TapeAndReel; PartId: 10944; Part Status: Active; Price: 0.11; Series: TransZorb®; Supplier 1: DigiKey; Supplier Part Number 1: SMBJ15D-M3/IGICT-ND; Supplier Device Package: DO-214AA (SMBJ); Voltage - Clamping (Max) @ Ipp: 24V; Voltage - Reverse Standoff (Typ): 15V
footprint DO214AA SMB
pins: 1, 2

## SMBJ16A
designator D?
TVS DIODE 16V 26V DO214AA; Manufacturer: Taiwan Semiconductor Corporation; Current - Peak Pulse (10/1000µs): 23.1A; Power Line Protection: No; Power - Peak Pulse: 600W; Type: Zener; Unidirectional Channels: 1; Voltage - Breakdown (Min): 17.8V; Part Number: SMBJ16A; Applications: General Purpose; ComponentLink1Description: Datasheet; ComponentLink1URL: https://www.taiwansemi.com/products/datasheet/SMBJ%20SERIES_P1812.pdf; ComponentLink2Description: DigiKey Link; ComponentLink2URL: http://digikey.com/product-detail/en/taiwan-semiconductor-corporation/SMBJ16A/SMBJ16AFSCT-ND/3042714; LastUpdated: 9/2/2020 1:19:47 AM; Lifecycle Status: Active; Minimum Order: 1; Mounting Type: Surface Mount; Operating Temperature: -55°C ~ 150°C (TJ); Package / Case: DO-214AA, SMB; Packaging: TapeAndReel; PartId: 10971; Part Status: Active; Price: 0.10; Series: SMBJ; Supplier 1: DigiKey; Supplier Part Number 1: SMBJ16AFSCT-ND; Supplier Device Package: DO-214AA (SMB); Voltage - Clamping (Max) @ Ipp: 26V; Voltage - Reverse Standoff (Typ): 16V
footprint DO214AA SMB
pins: 1, 2

## SMBJ16A R5G
designator D?
TVS DIODE 16V 26V DO214AA; Manufacturer: Taiwan Semiconductor Corporation; Current - Peak Pulse (10/1000µs): 24.2A; Power Line Protection: No; Power - Peak Pulse: 600W; Type: Zener; Unidirectional Channels: 1; Voltage - Breakdown (Min): 17.8V; Part Number: SMBJ16A R5G; Applications: General Purpose; ComponentLink1Description: Datasheet; ComponentLink1URL: https://www.taiwansemi.com/products/datasheet/SMBJ%20SERIES_P1812.pdf; ComponentLink2Description: DigiKey Link; ComponentLink2URL: http://digikey.com/product-detail/en/taiwan-semiconductor-corporation/SMBJ16A-R5G/SMBJ16AR5GCT-ND/7359081; LastUpdated: 9/2/2020 1:19:48 AM; Lifecycle Status: Active; Minimum Order: 0; Mounting Type: Surface Mount; Operating Temperature: -55°C ~ 150°C (TJ); Package / Case: DO-214AA, SMB; Packaging: TapeAndReel; PartId: 11011; Part Status: Active; Price: 0.22; Series: SMBJ; Supplier 1: DigiKey; Supplier Part Number 1: SMBJ16AR5GCT-ND; Supplier Device Package: DO-214AA (SMB); Voltage - Clamping (Max) @ Ipp: 26V; Voltage - Reverse Standoff (Typ): 16V
footprint DO214AA SMB
pins: 1, 2

## SMBJ16A-13
designator D?
TVS DIODE 16V 26V SMB; Manufacturer: Diodes Incorporated; Current - Peak Pulse (10/1000µs): 23.1A; Power Line Protection: No; Power - Peak Pulse: 600W; Type: Zener; Unidirectional Channels: 1; Voltage - Breakdown (Min): 17.8V; Part Number: SMBJ16A-13; Applications: General Purpose; ComponentLink1Description: Datasheet; ComponentLink1URL: //media.digikey.com/pdf/Data%20Sheets/Diodes%20PDFs/SMBJ5.0(C)A~SMBJ170(C)A.pdf; ComponentLink2Description: DigiKey Link; ComponentLink2URL: http://digikey.com/product-detail/en/diodes-incorporated/SMBJ16A-13/SMBJ16ADITR-ND/350208; LastUpdated: 9/2/2020 1:19:43 AM; Lifecycle Status: Active; Minimum Order: 0; Mounting Type: Surface Mount; Operating Temperature: -55°C ~ 150°C (TJ); Package / Case: DO-214AA, SMB; Packaging: TapeAndReel; PartId: 10541; Part Status: Active; Price: 0.17; Series: SMBJ; Supplier 1: DigiKey; Supplier Part Number 1: SMBJ16ADITR-ND; Supplier Device Package: SMB; Voltage - Clamping (Max) @ Ipp: 26V; Voltage - Reverse Standoff (Typ): 16V
footprint DO214AA SMB
pins: 1, 2

## SMBJ16A-13-F
designator D?
TVS DIODE 16V 26V SMB; Manufacturer: Diodes Incorporated; Current - Peak Pulse (10/1000µs): 23.1A; Power Line Protection: No; Power - Peak Pulse: 600W; Type: Zener; Unidirectional Channels: 1; Voltage - Breakdown (Min): 17.8V; Part Number: SMBJ16A-13-F; Applications: General Purpose; ComponentLink1Description: Datasheet; ComponentLink1URL: https://www.diodes.com/assets/Datasheets/ds19002.pdf; ComponentLink2Description: DigiKey Link; ComponentLink2URL: http://digikey.com/product-detail/en/diodes-incorporated/SMBJ16A-13-F/SMBJ16A-FDICT-ND/816062; LastUpdated: 9/2/2020 1:19:50 AM; Lifecycle Status: Active; Minimum Order: 1; Mounting Type: Surface Mount; Operating Temperature: -55°C ~ 150°C (TJ); Package / Case: DO-214AA, SMB; Packaging: TapeAndReel; PartId: 11219; Part Status: Active; Price: 0.09; Series: SMBJ; Supplier 1: DigiKey; Supplier Part Number 1: SMBJ16A-FDICT-ND; Supplier Device Package: SMB; Voltage - Clamping (Max) @ Ipp: 26V; Voltage - Reverse Standoff (Typ): 16V
footprint DO214AA SMB
pins: 1, 2

## SMBJ16A-E3/5B
designator D?
TVS DIODE 16V 26V DO214AA; Manufacturer: Vishay Semiconductor Diodes Division; Current - Peak Pulse (10/1000µs): 23.1A; Power Line Protection: No; Power - Peak Pulse: 600W; Type: Zener; Unidirectional Channels: 1; Voltage - Breakdown (Min): 17.8V; Part Number: SMBJ16A-E3/5B; Applications: General Purpose; ComponentLink1Description: Datasheet; ComponentLink1URL: http://www.vishay.com/docs/88392/smbj.pdf; ComponentLink2Description: DigiKey Link; ComponentLink2URL: http://digikey.com/product-detail/en/vishay-semiconductor-diodes-division/SMBJ16A-E3-5B/SMBJ16A-E3-5BGICT-ND/9601051; LastUpdated: 9/2/2020 1:19:43 AM; Lifecycle Status: Active; Minimum Order: 1; Mounting Type: Surface Mount; Operating Temperature: -55°C ~ 150°C (TJ); Package / Case: DO-214AA, SMB; Packaging: TapeAndReel; PartId: 10582; Part Status: Active; Price: 0.11; Series: TransZorb®; Supplier 1: DigiKey; Supplier Part Number 1: SMBJ16A-E3/5BGICT-ND; Supplier Device Package: DO-214AA (SMBJ); Voltage - Clamping (Max) @ Ipp: 26V; Voltage - Reverse Standoff (Typ): 16V
footprint DO214AA SMB
pins: 1, 2

## SMBJ16A-E3/52
designator D?
TVS DIODE 16V 26V DO214AA; Manufacturer: Vishay Semiconductor Diodes Division; Current - Peak Pulse (10/1000µs): 23.1A; Power Line Protection: No; Power - Peak Pulse: 600W; Type: Zener; Unidirectional Channels: 1; Voltage - Breakdown (Min): 17.8V; Part Number: SMBJ16A-E3/52; Applications: General Purpose; ComponentLink1Description: Datasheet; ComponentLink1URL: http://www.vishay.com/docs/88392/smbj.pdf; ComponentLink2Description: DigiKey Link; ComponentLink2URL: http://digikey.com/product-detail/en/vishay-semiconductor-diodes-division/SMBJ16A-E3-52/SMBJ16A-E3-52GICT-ND/2413437; LastUpdated: 9/2/2020 1:19:49 AM; Lifecycle Status: Active; Minimum Order: 1; Mounting Type: Surface Mount; Operating Temperature: -55°C ~ 150°C (TJ); Package / Case: DO-214AA, SMB; Packaging: TapeAndReel; PartId: 11099; Part Status: Active; Price: 0.15; Series: TransZorb®; Supplier 1: DigiKey; Supplier Part Number 1: SMBJ16A-E3/52GICT-ND; Supplier Device Package: DO-214AA (SMBJ); Voltage - Clamping (Max) @ Ipp: 26V; Voltage - Reverse Standoff (Typ): 16V
footprint DO214AA SMB
pins: 1, 2